# EAGLE library part SP3203E (library laforge)
Exar SP3203E RS232 transceiver with variable CMOS Voltage Taken from SP3203E_100_120810
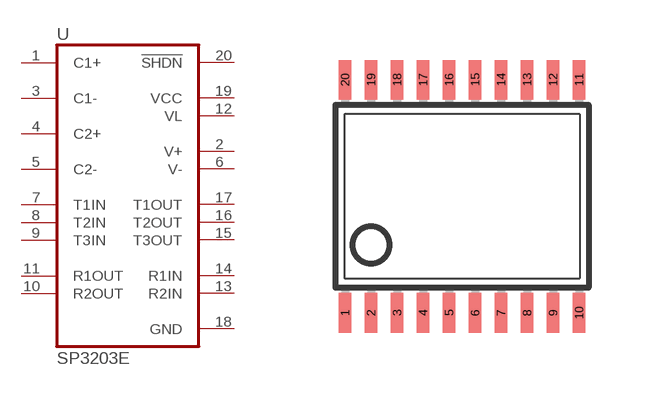
[diagram p9: symbol with the pads of TSSOP20; footprint TSSOP20]

Designator prefix -

## SP3203E  [TSSOP20]
1  C1+
2  V+
3  C1-
4  C2+
5  C2-
6  V-
7  T1IN  in
8  T2IN  in
9  T3IN  in
10  R2OUT  out
11  R1OUT  out
12  VL  pwr
13  R2IN  in
14  R1IN  in
15  T3OUT  out
16  T2OUT  out
17  T1OUT  out
18  GND
19  VCC  pwr
20  !SHDN  in

## Footprint TSSOP20 (pad centres in mm)
smd 0.305 x 0.991: 1 -2.925,-2.918; 2 -2.275,-2.918; 3 -1.625,-2.918; 4 -0.975,-2.918; 5 -0.325,-2.918; 6 0.325,-2.918; 7 0.975,-2.918; 8 1.625,-2.918; 9 2.275,-2.918; 10 2.925,-2.918; 11 2.925,2.918; 12 2.275,2.918; 13 1.625,2.918; 14 0.975,2.918; 15 0.325,2.918; 16 -0.325,2.918; 17 -0.975,2.918; 18 -1.625,2.918; 19 -2.275,2.918; 20 -2.925,2.918